# EAGLE library part PMS7003_PMS7003 (library luftdaten_v1r1)
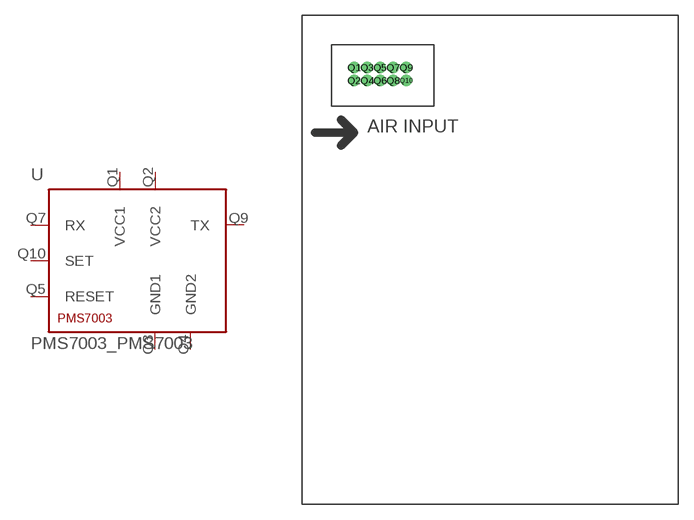
[diagram p2: symbol with the pads of PMS7003_PMS7003; footprint PMS7003_PMS7003]

Designator prefix -

## PMS7003_PMS7003  [PMS7003_PMS7003]
Q1  VCC1
Q2  VCC2
Q3  GND1
Q4  GND2
Q5  RESET
Q7  RX  in
Q9  TX  out
Q10  SET

## Footprint PMS7003_PMS7003 (pad centres in mm)
drill 0.6 pad 0.9: Q1 5.08,-5.08; Q2 5.08,-6.35; Q3 6.35,-5.08; Q4 6.35,-6.35; Q5 7.62,-5.08; Q6 7.62,-6.35; Q7 8.89,-5.08; Q8 8.89,-6.35; Q9 10.16,-5.08; Q10 10.16,-6.35